# Altium footprint library Panasonic Footprints.PcbLib: 49 footprints (part 3 of 4)
Each footprint in its own frame and in the unit in brackets; x right, y up, seen from the top. Pads: shape width x height; smd on the part's side, far side on the other; paste and mask are expansions set on the pad; w line width, h text height; cw(c..) or ccw(c..) is an arc to the next point about the centre after c.
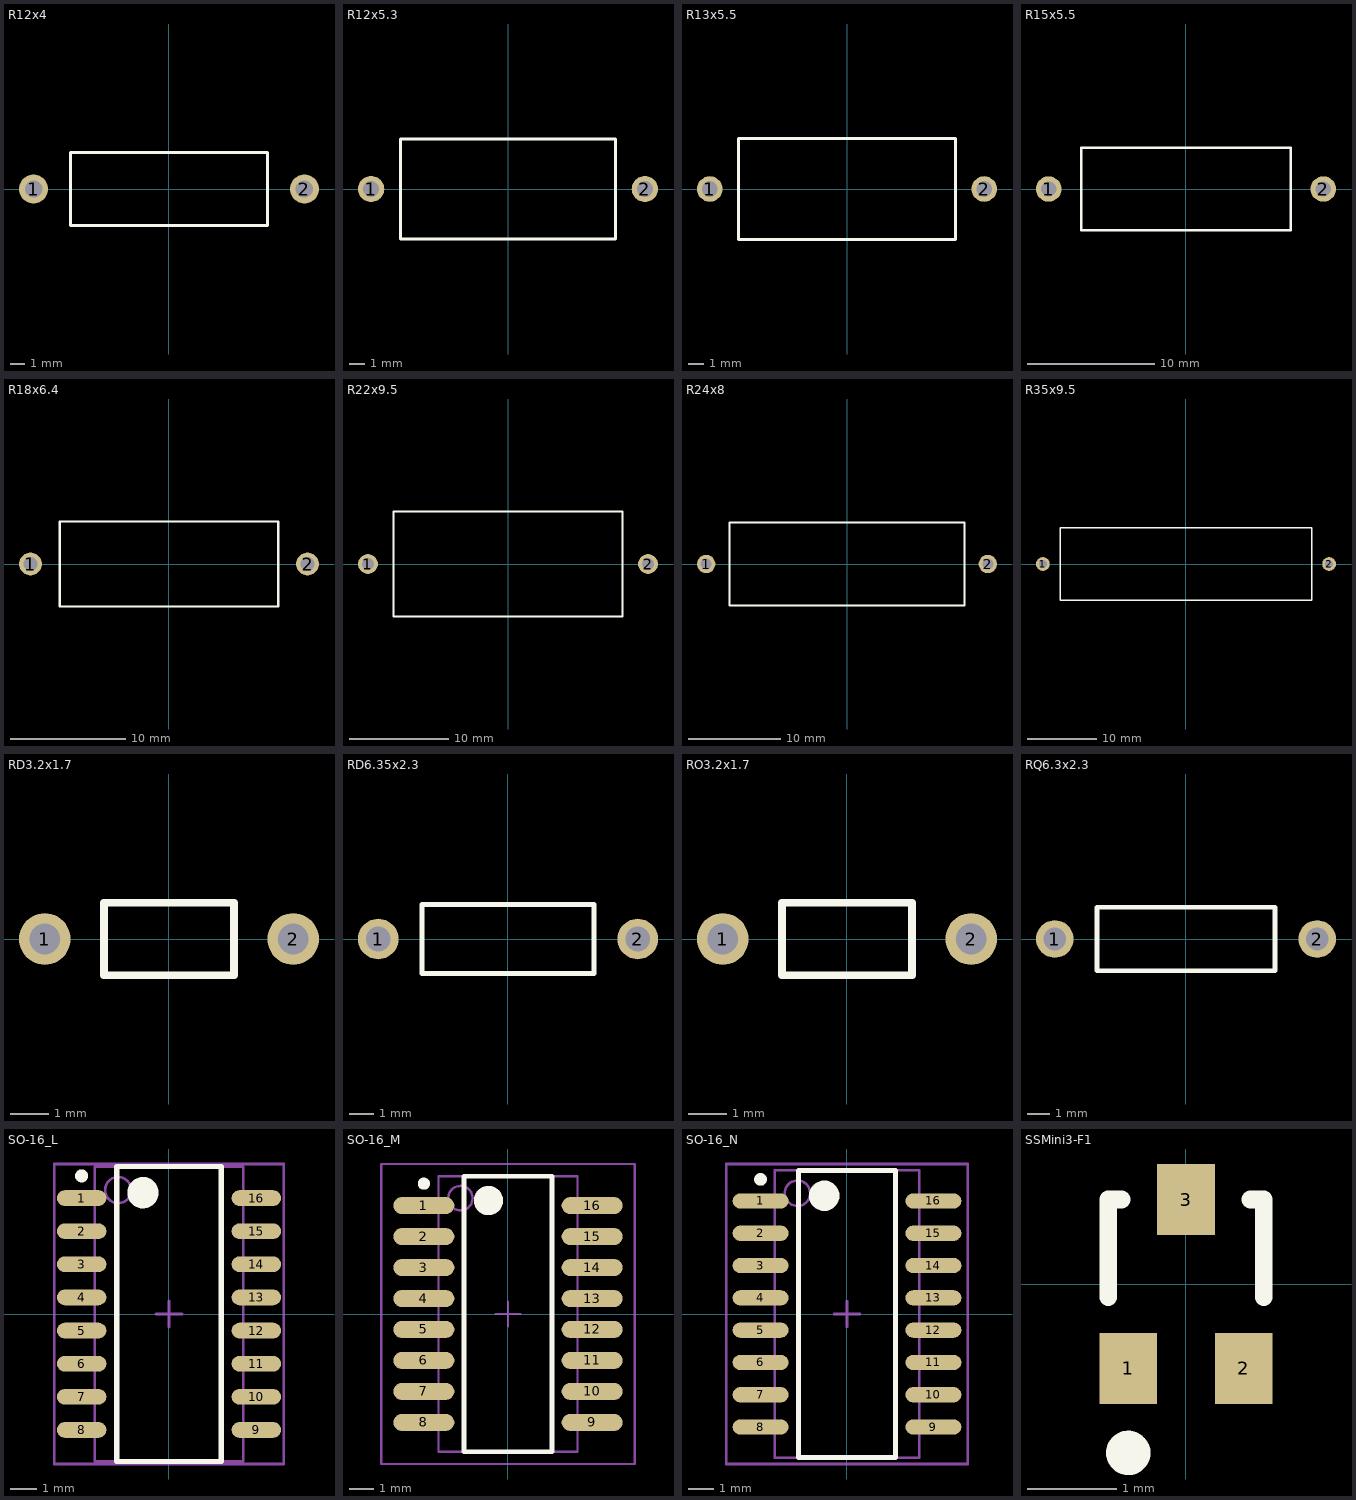
[diagram p2: the footprints below, top view; thin cyan lines are the x and y axes]

## R12x4 [mm] "Resistor, Axial; Body 13.5 x 5 mm (LxDia. max), Lead Dia. 0.85 mm (max)"
height 5
pads (2):
  round 2 hole 1.2: 1(-9.3,0) 2(9.3,0)
Top Overlay:
  lines w0.2: -6.75,-2.5 -6.75,2.5 6.75,2.5 6.75,-2.5 -6.75,-2.5

## R12x5.3 [mm] "Resistor, Axial; Body 13.5 x 6.3 mm (LxDia. max), Lead Dia. 0.7 mm (max)"
height 6.3
pads (2):
  round 1.65 hole 1: 1(-8.6,0) 2(8.6,0)
Top Overlay:
  lines w0.2: -6.75,-3.15 -6.75,3.15 6.75,3.15 6.75,-3.15 -6.75,-3.15

## R13x5.5 [mm] "Resistor, Axial; Body 14 x 6.5 x 6.5mm (LxWxH max), Lead Dia. 0.7 mm (max)"
height 6.5
pads (2):
  round 1.65 hole 1: 1(-8.85,0) 2(8.85,0)
Top Overlay:
  lines w0.2: -7,-3.25 -7,3.25 7,3.25 7,-3.25 -7,-3.25

## R15x5.5 [mm] "Resistor, Axial; Body 16.5 x 6.5 mm (LxDia. max), Lead Dia. 0.85 mm (max)"
height 6.5
pads (2):
  round 2 hole 1.2: 1(-10.8,0) 2(10.8,0)
Top Overlay:
  lines w0.2: -8.25,-3.25 -8.25,3.25 8.25,3.25 8.25,-3.25 -8.25,-3.25

## R18x6.4 [mm] "Resistor, Axial; Body 19 x 7.4 x 7.4mm (LxWxH max), Lead Dia. 0.85 mm (max)"
height 7.4
pads (2):
  round 2 hole 1.2: 1(-12.05,0) 2(12.05,0)
Top Overlay:
  lines w0.2: -9.5,-3.7 -9.5,3.7 9.5,3.7 9.5,-3.7 -9.5,-3.7

## R22x9.5 [mm] "Resistor, Axial; Body 23 x 10.5 x 10.5mm (LxWxH max), Lead Dia. 0.85 mm (max)"
height 10.5
pads (2):
  round 2 hole 1.2: 1(-14.05,0) 2(14.05,0)
Top Overlay:
  lines w0.2: -11.5,-5.25 -11.5,5.25 11.5,5.25 11.5,-5.25 -11.5,-5.25

## R24x8 [mm] "Resistor, Axial; Body 25.5 x 9 mm (LxDia. max), Lead Dia. 0.85 mm (max)"
height 9
pads (2):
  round 2 hole 1.2: 1(-15.3,0) 2(15.3,0)
Top Overlay:
  lines w0.2: -12.75,-4.5 -12.75,4.5 12.75,4.5 12.75,-4.5 -12.75,-4.5

## R35x9.5 [mm] "Resistor, Axial; Body 36.5 x 10.5 x 10.5mm (LxWxH max), Lead Dia. 0.85 mm (max)"
height 10.5
pads (2):
  round 2 hole 1.2: 1(-20.8,0) 2(20.8,0)
Top Overlay:
  lines w0.2: -18.25,-5.25 18.25,-5.25 18.25,5.25 -18.25,5.25 -18.25,-5.25

## RD3.2x1.7 [mm] "Resistor, Axial; Body 3.4 x 1.9 mm (LxDia. max), Lead Dia. 0.5 mm (max)"
height 1.9
pads (2):
  round 1.35 hole 0.8: 1(-3.25,0) 2(3.25,0)
Top Overlay:
  lines w0.2: -1.7,-0.95 1.7,-0.95 1.7,0.95 -1.7,0.95 -1.7,-0.95

## RD6.35x2.3 [mm] "Resistor, Axial; Body 7 x 2.8 mm (LxDia. max), Lead Dia. 0.65 mm (max)"
height 2.8
pads (2):
  round 1.65 hole 1: 1(-5.275,0) 2(5.275,0)
Top Overlay:
  lines w0.2: -3.5,-1.4 -3.5,1.4 3.5,1.4 3.5,-1.4 -3.5,-1.4

## RO3.2x1.7 [mm] "Resistor, Axial; Body 3.4 x 1.9 mm (LxDia. max), Lead Dia. 0.5 mm (max)"
height 1.9
pads (2):
  round 1.35 hole 0.8: 1(-3.25,0) 2(3.25,0)
Top Overlay:
  lines w0.2: -1.7,-0.95 -1.7,0.95 1.7,0.95 1.7,-0.95 -1.7,-0.95

## RQ6.3x2.3 [mm] "Resistor, Axial; Body 7.8 x 2.8 mm (LxDia. max), Lead Dia. 0.7 mm (max)"
height 2.8
pads (2):
  round 1.65 hole 1: 1(-5.75,0) 2(5.75,0)
Top Overlay:
  lines w0.2: -3.9,-1.4 -3.9,1.4 3.9,1.4 3.9,-1.4 -3.9,-1.4

## SO-16_L [mm] "16-Pin Small Outline Package 1.27 mm Pitch, IPC High Density"
height 2.2
pads (16):
  oval 1.9x0.6 smd: 1(-3.35,4.445) 2(-3.35,3.175) 3(-3.35,1.905) 4(-3.35,0.635) 5(-3.35,-0.635) 6(-3.35,-1.905) 7(-3.35,-3.175) 8(-3.35,-4.445) 9(3.35,-4.445) 10(3.35,-3.175) 11(3.35,-1.905) 12(3.35,-0.635) 13(3.35,0.635) 14(3.35,1.905) 15(3.35,3.175) 16(3.35,4.445)
Top Overlay:
  circle w0.25: c-3.35,5.295 r0.125
  circle w0.6: c-1,4.65 r0.3
  lines w0.2: -2,-5.65 -2,5.65 2,5.65 2,-5.65 -2,-5.65
Mechanical 13:
  circle w0.1: c-1.95,4.75 r0.5
  lines w0.1: -2.85,-5.65 -2.85,5.65 2.85,5.65 2.85,-5.65 -2.85,-5.65
Mechanical 15:
  lines w0.1: -0.5,0 0.5,0 ; 0,-0.5 0,0.5 ; -4.4,-5.75 -4.4,5.75 4.4,5.75 4.4,-5.75 -4.4,-5.75
3D body: height 2.2, standoff 0, extent -2.85,-5.65 2.85,5.65

## SO-16_M [mm] "16-Pin Small Outline Package 1.27 mm Pitch, IPC Low Density"
height 2.2
pads (16):
  oval 2.5x0.7 smd: 1(-3.45,4.445) 2(-3.45,3.175) 3(-3.45,1.905) 4(-3.45,0.635) 5(-3.45,-0.635) 6(-3.45,-1.905) 7(-3.45,-3.175) 8(-3.45,-4.445) 9(3.45,-4.445) 10(3.45,-3.175) 11(3.45,-1.905) 12(3.45,-0.635) 13(3.45,0.635) 14(3.45,1.905) 15(3.45,3.175) 16(3.45,4.445)
Top Overlay:
  circle w0.25: c-3.45,5.345 r0.125
  circle w0.6: c-0.8,4.65 r0.3
  lines w0.2: -1.8,-5.65 -1.8,5.65 1.8,5.65 1.8,-5.65 -1.8,-5.65
Mechanical 13:
  circle w0.1: c-1.95,4.75 r0.5
  lines w0.1: -2.85,-5.65 -2.85,5.65 2.85,5.65 2.85,-5.65 -2.85,-5.65
Mechanical 15:
  lines w0.1: -0.5,0 0.5,0 ; 0,-0.5 0,0.5 ; -5.2,-6.15 -5.2,6.15 5.2,6.15 5.2,-6.15 -5.2,-6.15
3D body: height 2.2, standoff 0, extent -2.85,-5.65 2.85,5.65

## SO-16_N [mm] "16-Pin Small Outline Package 1.27 mm Pitch, IPC Medium Density"
height 2.2
pads (16):
  oval 2.2x0.6 smd: 1(-3.4,4.445) 2(-3.4,3.175) 3(-3.4,1.905) 4(-3.4,0.635) 5(-3.4,-0.635) 6(-3.4,-1.905) 7(-3.4,-3.175) 8(-3.4,-4.445) 9(3.4,-4.445) 10(3.4,-3.175) 11(3.4,-1.905) 12(3.4,-0.635) 13(3.4,0.635) 14(3.4,1.905) 15(3.4,3.175) 16(3.4,4.445)
Top Overlay:
  circle w0.6: c-0.9,4.65 r0.3
  circle w0.25: c-3.4,5.295 r0.125
  lines w0.2: -1.9,-5.65 1.9,-5.65 1.9,5.65 -1.9,5.65 -1.9,-5.65
Mechanical 13:
  circle w0.1: c-1.95,4.75 r0.5
  lines w0.1: -2.85,-5.65 2.85,-5.65 2.85,5.65 -2.85,5.65 -2.85,-5.65
Mechanical 15:
  lines w0.1: -0.5,0 0.5,0 ; 0,-0.5 0,0.5 ; -4.75,-5.9 4.75,-5.9 4.75,5.9 -4.75,5.9 -4.75,-5.9
3D body: height 2.2, standoff 0, extent -2.85,-5.65 2.85,5.65

## SSMini3-F1 [mm] "SM; 3 Flat Leads; Body 2.0 x 2.1 x 0.9 mm, inc leads (LxWxH typ)"
height 1
pads (3):
  rect 0.65x0.8 smd: 1(-0.65,-0.95) 2(0.65,-0.95) 3(0,0.95)
Top Overlay:
  circle w0.25: c-0.65,-1.9 r0.125
  lines w0.2: -0.875,-0.15 -0.875,0.95 -0.725,0.95 ; 0.725,0.95 0.875,0.95 0.875,-0.15